# EAGLE library part PIC18F2XJ50 (library GadgetFactory_v1)
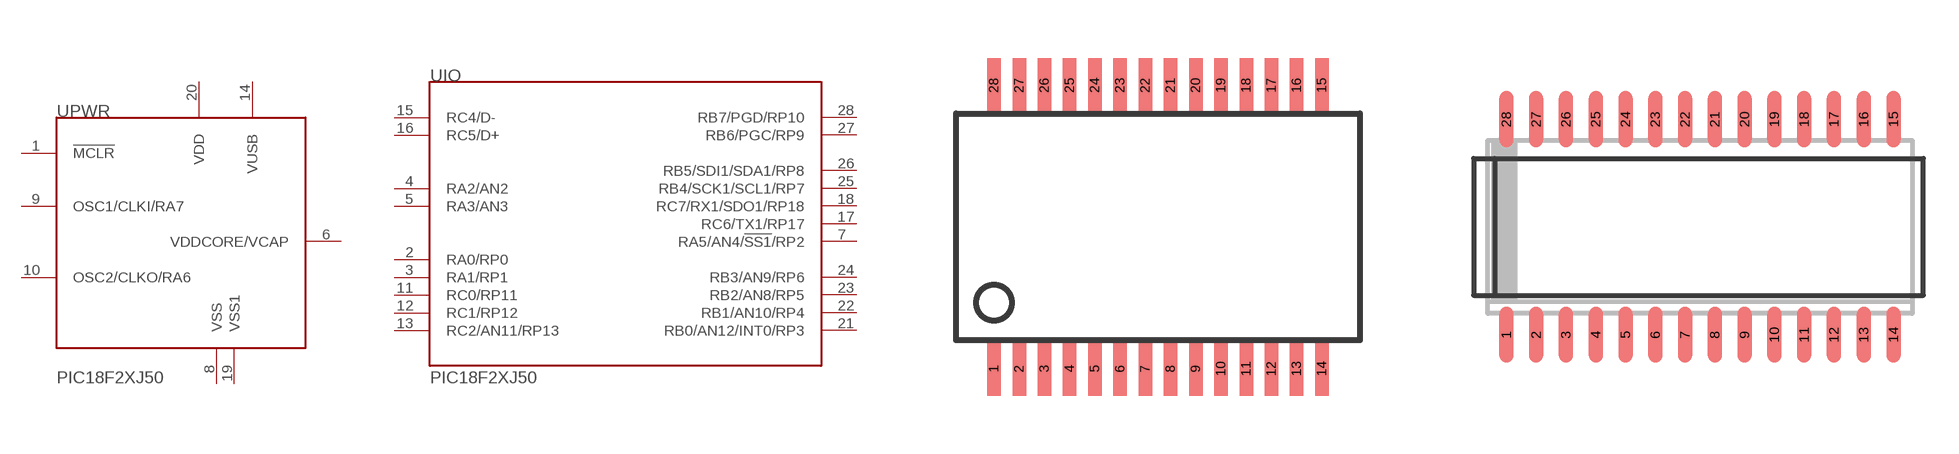
[diagram p16: symbol with the pads of SSOP28; footprints SSOP28, SO28W]

Designator prefix U; gates IO=PIC18F2XJ50_IO PWR=PIC18F2XJ50_CTL

## PIC18F2XJ50SS  [SSOP28]
1  PWR:!MCLR  in
2  IO:RA0/RP0
3  IO:RA1/RP1
4  IO:RA2/AN2
5  IO:RA3/AN3
6  PWR:VDDCORE/VCAP
7  IO:RA5/AN4/!SS1!/RP2
8  PWR:VSS  pwr
9  PWR:OSC1/CLKI/RA7
10  PWR:OSC2/CLKO/RA6
11  IO:RC0/RP11
12  IO:RC1/RP12
13  IO:RC2/AN11/RP13
14  PWR:VUSB
15  IO:RC4/D-
16  IO:RC5/D+
17  IO:RC6/TX1/RP17
18  IO:RC7/RX1/SDO1/RP18
19  PWR:VSS1  pwr
20  PWR:VDD  pwr
21  IO:RB0/AN12/INT0/RP3
22  IO:RB1/AN10/RP4
23  IO:RB2/AN8/RP5
24  IO:RB3/AN9/RP6
25  IO:RB4/SCK1/SCL1/RP7
26  IO:RB5/SDI1/SDA1/RP8
27  IO:RB6/PGC/RP9
28  IO:RB7/PGD/RP10

## PIC18F2XJ50SO  [SO28W]
Pads as for SSOP28

## Footprint SSOP28 (pad centres in mm)
Small Shrink Outline Package
smd 0.348 x 1.397: 1 -4.225,-3.656; 2 -3.575,-3.656; 3 -2.925,-3.656; 4 -2.275,-3.656; 5 -1.625,-3.656; 6 -0.975,-3.656; 7 -0.325,-3.656; 8 0.325,-3.656; 9 0.975,-3.656; 10 1.625,-3.656; 11 2.275,-3.656; 12 2.925,-3.656; 13 3.575,-3.656; 14 4.225,-3.656; 15 4.225,3.656; 16 3.575,3.656; 17 2.925,3.656; 18 2.275,3.656; 19 1.625,3.656; 20 0.975,3.656; 21 0.325,3.656; 22 -0.325,3.656; 23 -0.975,3.656; 24 -1.625,3.656; 25 -2.275,3.656; 26 -2.925,3.656; 27 -3.575,3.656; 28 -4.225,3.656

## Footprint SO28W (pad centres in mm)
SMALL OUTLINE INTEGRATED CIRCUIT wide body 7.5 mm/JEDEC MO-119AB Source: http://www.atmel.com/dyn/resources/prod_documents/doc4126.pdf
smd 0.6 x 2.4: 1 -8.255,-4.6; 2 -6.985,-4.6; 3 -5.715,-4.6; 4 -4.445,-4.6; 5 -3.175,-4.6; 6 -1.905,-4.6; 7 -0.635,-4.6; 8 0.635,-4.6; 9 1.905,-4.6; 10 3.175,-4.6; 11 4.445,-4.6; 12 5.715,-4.6; 13 6.985,-4.6; 14 8.255,-4.6; 15 8.255,4.6; 16 6.985,4.6; 17 5.715,4.6; 18 4.445,4.6; 19 3.175,4.6; 20 1.905,4.6; 21 0.635,4.6; 22 -0.635,4.6; 23 -1.905,4.6; 24 -3.175,4.6; 25 -4.445,4.6; 26 -5.715,4.6; 27 -6.985,4.6; 28 -8.255,4.6